# Altium footprint library DIODE.PCBLIB: 38 footprints (part 3 of 3)
Each footprint in its own frame and in the unit in brackets; x right, y up, seen from the top. Pads: shape width x height; smd on the part's side, far side on the other; paste and mask are expansions set on the pad; w line width, h text height; cw(c..) or ccw(c..) is an arc to the next point about the centre after c.
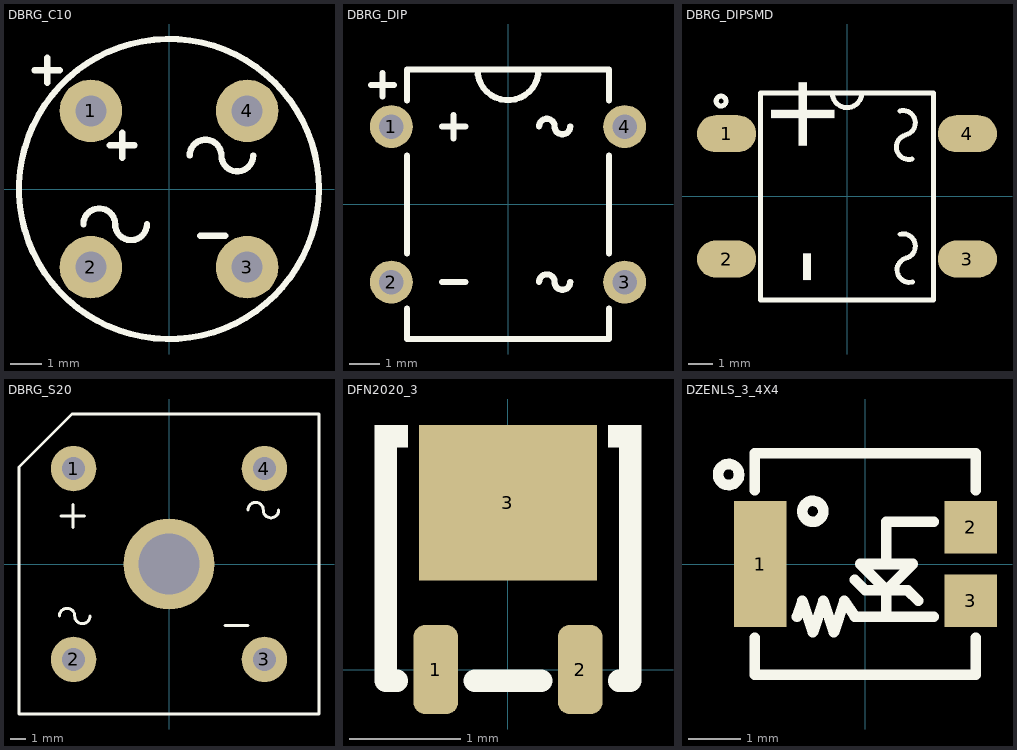
[diagram p2: the footprints below, top view; thin cyan lines are the x and y axes]

## DBRG_C10 [mm] "BRDIGE RECTIFIER, WOB WOG, pitch: 5.08mm, 10X10mm"
pads (4):
  round 2 hole 1: 1(-2.5,2.5) 2(-2.5,-2.5) 3(2.5,-2.5) 4(2.5,2.5)
Top Overlay:
  circle w0.2: c0,0 r4.8
  lines w0.2: -4.3,3.8 -3.5,3.8 ; -3.9,3.4 -3.9,4.2 ; -2.739,-1.129 cw(c-2.231,-1.129) -1.723,-1.129 ccw(c-1.215,-1.129) -0.707,-1.129 ; -1.9,1.4 -1.1,1.4 ; -1.5,1 -1.5,1.8 ; 0.661,1.071 cw(c1.169,1.071) 1.677,1.071 ccw(c2.185,1.071) 2.693,1.071 ; 1,-1.5 1.8,-1.5
3D body "User Library-WOB-1.step": height 5.6, standoff -3.5, extent -4.65,-4.645 4.65,4.645

## DBRG_DIP [mm] "BRDIGE RECTIFIER, pitch: 5.08mm, 8X5mm"
pads (4):
  round 1.4 / inner round 1.4 / far side oct 2.2x1.4 hole 0.8: 1(-3.81,2.54)
  round 1.4 / inner round 1.4 / far side oval 2.2x1.4 hole 0.8: 2(-3.81,-2.54) 3(3.81,-2.54) 4(3.81,2.54)
Top Overlay:
  lines w0.2: -4.481,3.9 -3.719,3.9 ; -4.1,3.519 -4.1,4.281 ; -3.3,-3.4 -3.3,-4.4 3.3,-4.4 3.3,-3.4 ; -3.3,-1.6 -3.3,1.6 ; -3.3,3.4 -3.3,4.4 3.3,4.4 3.3,3.4 ; -2.159,-2.54 -1.397,-2.54 ; -2.159,2.54 -1.397,2.54 ; -1.778,2.159 -1.778,2.921 ; -1,4.4 ccw(c0,4.4) 1,4.4 ; 1.016,-2.54 cw(c1.27,-2.54) 1.524,-2.54 ccw(c1.778,-2.54) 2.032,-2.54 ; 1.016,2.54 cw(c1.27,2.54) 1.524,2.54 ccw(c1.778,2.54) 2.032,2.54 ; 3.3,-1.6 3.3,1.6
3D body "User Library-DFM_Bridge_Rectifier.step": height 4.05, standoff -3.35, extent -4,-4.255 4,4.255

## DBRG_DIPSMD [mm] "BRIDGE RECTIFIER, pitch: 5.08mm, 8X6mm, DB-S, DF005S"
pads (4):
  oval 2.4x1.5 smd: 1(-4.88,2.54) 2(-4.88,-2.54) 3(4.88,-2.54) 4(4.88,2.54)
Top Overlay:
  circle w0.2: c-5.102,3.864 r0.2
  lines w0.2: -0.6,4.2 ccw(c0,4.2) 0.599,4.175 ; 2.141,-1.534 cw(c2.271,-2.017) 2.4,-2.5 ccw(c2.529,-2.983) 2.659,-3.466 ; 2.141,3.466 cw(c2.271,2.983) 2.4,2.5 ; 2.371,2.483 ccw(c2.5,2) 2.629,1.517 ; -3.5,-4.2 3.5,-4.2 3.5,4.2 -3.5,4.2 -3.5,-4.2
  text "+" at -0.5,1.6 h3
  text "-" at -0.5,-3.6 h3
3D body "User Library-PONTE-1_DF_smt.STEP": height 2.7, standoff 0, extent -5.075,-4.05 5.075,4.05

## DBRG_S20 [mm] "BRIDGE RECTIFIER, pitch: 12.7mm, 20X20mm"
pads (5):
  round 3 hole 1.5: 1(-6.3,6.3) 2(-6.3,-6.3) 3(6.3,-6.3) 4(6.3,6.3)
  round 6 hole 4: ""(0,0)
Top Overlay:
  lines w0.2: -7.239,-3.429 cw(c-6.731,-3.429) -6.223,-3.429 ccw(c-5.715,-3.429) -5.207,-3.429 ; -7.112,3.175 -5.588,3.175 ; -6.35,2.413 -6.35,3.937 ; 3.683,-4.064 5.207,-4.064 ; 5.207,3.556 cw(c5.715,3.556) 6.223,3.556 ccw(c6.731,3.556) 7.239,3.556 ; -9.9,-9.9 -9.9,6.4 -6.4,9.9 9.9,9.9 9.9,-9.9 -9.9,-9.9
3D body "User Library-BR-8.step": height 7.5, standoff -3.5, extent -9.8,-9.8 9.8,9.8

## DFN2020_3 [mm] "DFN2020D-3, SOT1061D, Body 2X2X0.65mm,"
height 0.65
pads (3):
  rrect50% 0.4x0.8 smd mask+0.075: 1(-0.65,0) 2(0.65,0)
  rect 1.6x1.4 smd mask+0.075: 3(0,1.5)
Top Overlay:
  region: 1.2,2.2 0.9,2.2 0.9,2 1.2,2
  rectangle: -1.2,2 -0.9,2.2
  lines w0.2: -1.1,2.1 -1.1,-0.1 -1,-0.1 ; -0.3,-0.1 0.3,-0.1 ; 1,-0.1 1.1,-0.1 1.1,2.1
3D body "User Library-SOT1061.step": height 0.65, standoff 0, extent -1,0 1,2.002

## DZENLS_3_4X4 [mm]
pads (3):
  rect 1x2.4 smd mask+0.1: 1(-2,0)
  rect 1x1 smd mask+0.1: 2(2,0.7) 3(2,-0.7)
Top Overlay:
  circle w0.2: c-2.6,1.7 r0.2
  circle w0.2: c-1,1 r0.2
  lines w0.2: -2.1,-1.4 -2.1,-2.1 2.1,-2.1 2.1,-1.4 ; -2.1,1.4 -2.1,2.1 2.1,2.1 2.1,1.4 ; -1.3,-1 -1.2,-0.7 -1,-1.3 -0.8,-0.7 -0.6,-1.3 -0.4,-0.7 -0.2,-1 0.4,-1 ; -0.2,-0.3 0,-0.5 0.8,-0.5 1,-0.7 ; 0.4,0 0.4,0.8 1.3,0.8 ; 1.3,-1 0.4,-1 ; 0.4,-1 0.4,-0.5 ; 0.4,-0.5 -0.1,0 0.9,0 0.4,-0.5 ; 0.5,-0.5 0.5,-0.5
3D body: height 2, standoff 0, extent -2,-2 2,2